# EAGLE library part 7130LA35PDG (library atari)
IC SRAM 8KBIT 35NS 48DIP
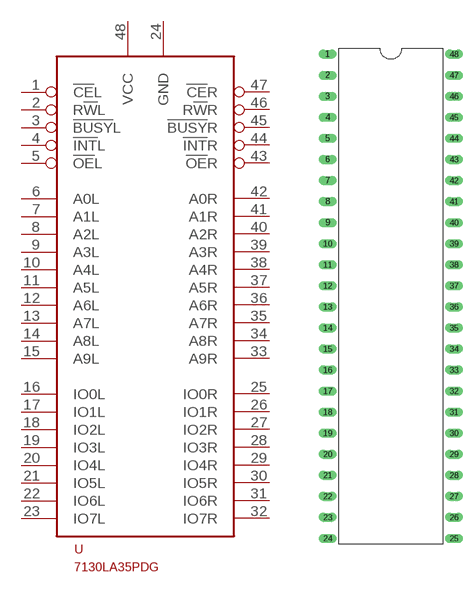
[diagram p1: symbol with the pads of DIP48; footprint DIP48]

Designator prefix -

## 7130LA35PDG  [DIP48]
1  !CE!L  in
2  R!W!L  in
3  !BUSY!L  out
4  !INT!L  out
5  !OE!L  in
6  A0L  in
7  A1L  in
8  A2L  in
9  A3L  in
10  A4L  in
11  A5L  in
12  A6L  in
13  A7L  in
14  A8L  in
15  A9L  in
16  IO0L
17  IO1L
18  IO2L
19  IO3L
20  IO4L
21  IO5L
22  IO6L
23  IO7L
24  GND  pwr
25  IO0R
26  IO1R
27  IO2R
28  IO3R
29  IO4R
30  IO5R
31  IO6R
32  IO7R
33  A9R  in
34  A8R  in
35  A7R  in
36  A6R  in
37  A5R  in
38  A4R  in
39  A3R  in
40  A2R  in
41  A1R  in
42  A0R  in
43  !OE!R  in
44  !INT!R  out
45  !BUSY!R  out
46  R!W!R  in
47  !CE!R  in
48  VCC  pwr

## Footprint DIP48 (pad centres in mm)
drill 0.6 long: 1 -7.62,29.21; 2 -7.62,26.67; 3 -7.62,24.13; 4 -7.62,21.59; 5 -7.62,19.05; 6 -7.62,16.51; 7 -7.62,13.97; 8 -7.62,11.43; 9 -7.62,8.89; 10 -7.62,6.35; 11 -7.62,3.81; 12 -7.62,1.27; 13 -7.62,-1.27; 14 -7.62,-3.81; 15 -7.62,-6.35; 16 -7.62,-8.89; 17 -7.62,-11.43; 18 -7.62,-13.97; 19 -7.62,-16.51; 20 -7.62,-19.05; 21 -7.62,-21.59; 22 -7.62,-24.13; 23 -7.62,-26.67; 24 -7.62,-29.21; 25 7.62,-29.21; 26 7.62,-26.67; 27 7.62,-24.13; 28 7.62,-21.59; 29 7.62,-19.05; 30 7.62,-16.51; 31 7.62,-13.97; 32 7.62,-11.43; 33 7.62,-8.89; 34 7.62,-6.35; 35 7.62,-3.81; 36 7.62,-1.27; 37 7.62,1.27; 38 7.62,3.81; 39 7.62,6.35; 40 7.62,8.89; 41 7.62,11.43; 42 7.62,13.97; 43 7.62,16.51; 44 7.62,19.05; 45 7.62,21.59; 46 7.62,24.13; 47 7.62,26.67; 48 7.62,29.21